# Altium schematic symbol library Cells_in_Space.SCHLIB: 57 symbols
Pins are listed as number, name and electrical type; pins without a type are passive.

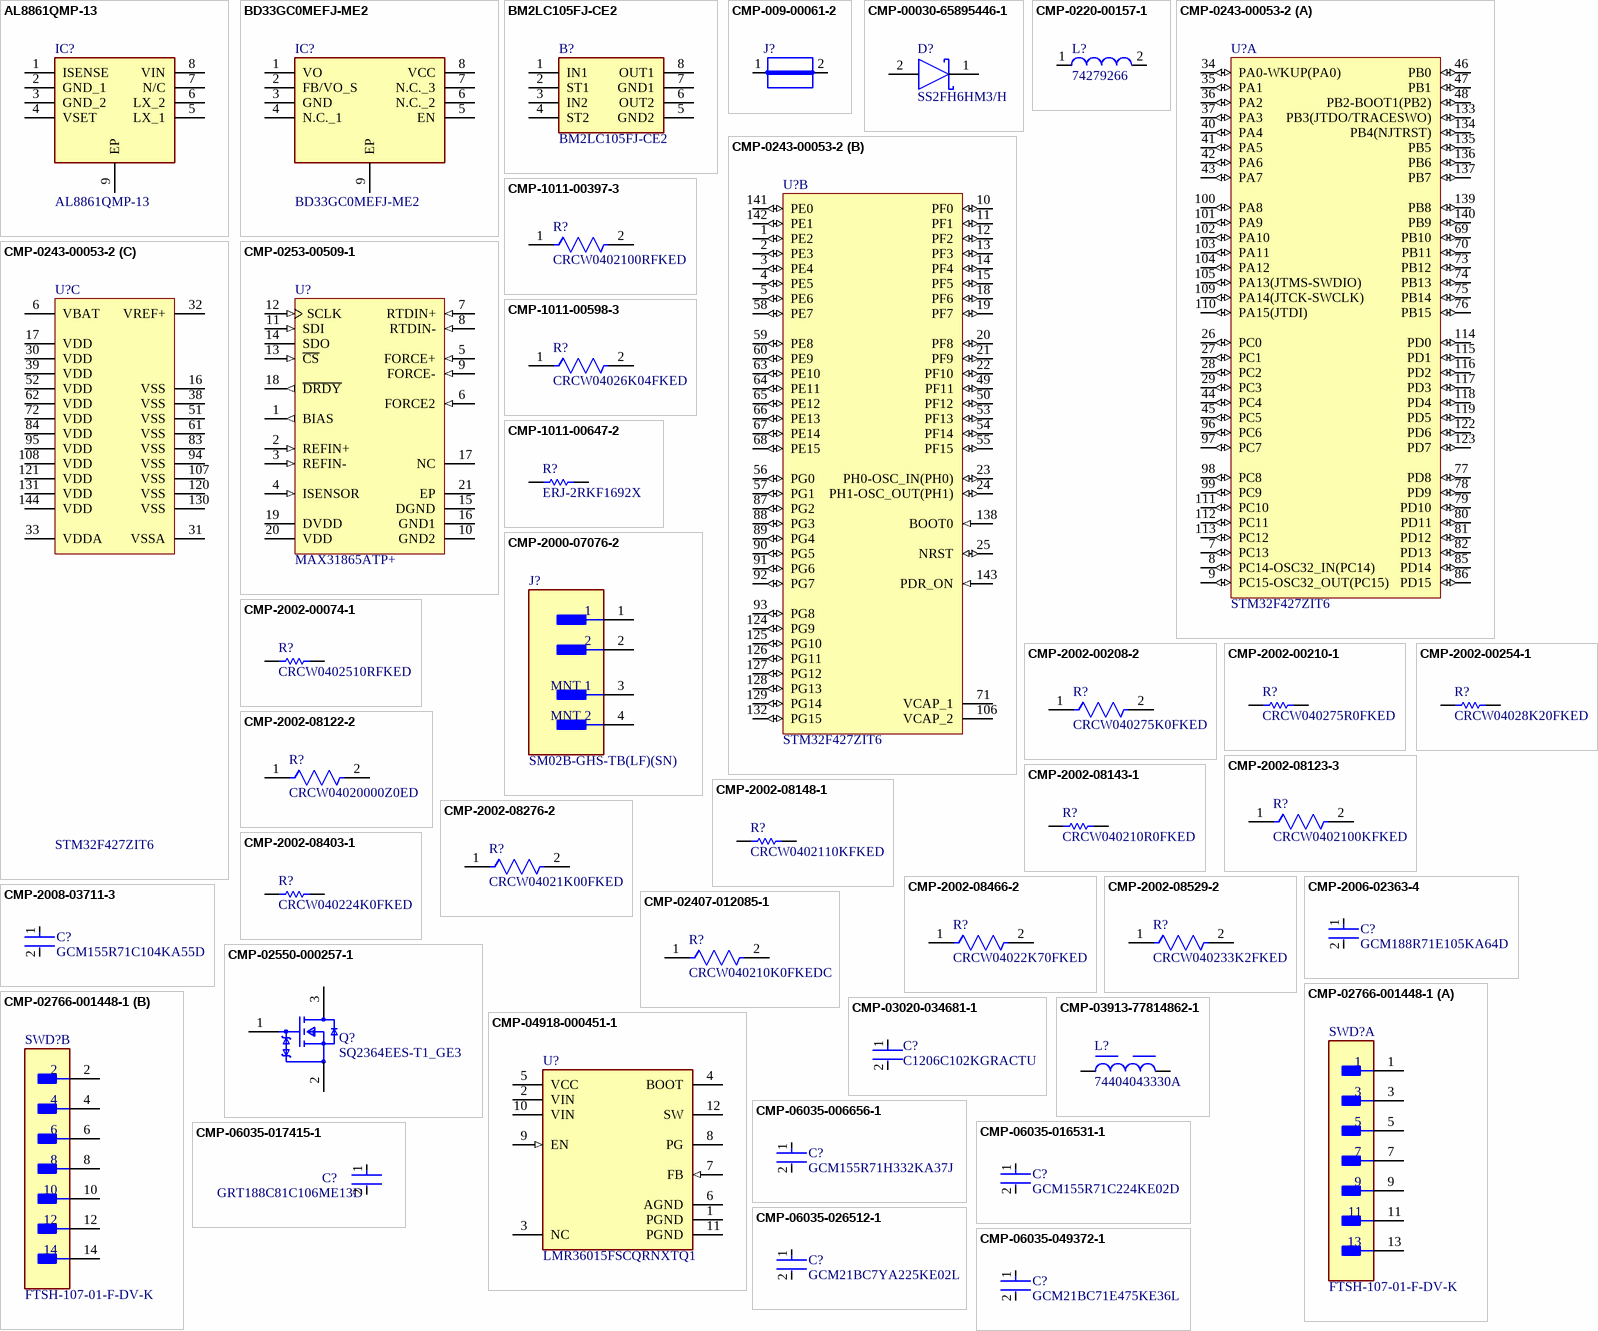
[diagram p0: symbols AL8861QMP-13 to CMP-06035-049372-1]

## AL8861QMP-13
designator IC?
Integrated Circuit; Manufacturer_Name: Diodes Incorporated; Datasheet Link: https://componentsearchengine.com/Datasheets/1/AL8861QMP-13.pdf; Height: 1.1mm; Manufacturer_Part_Number: AL8861QMP-13; Mouser Part Number: 621-AL8861QMP-13; Mouser Price/Stock: https://www.mouser.co.uk/ProductDetail/Diodes-Incorporated/AL8861QMP-13?qs=T3oQrply3y9Ug0fmv4aCFA%3D%3D; Arrow Part Number: AL8861QMP-13; Arrow Price/Stock: https://www.arrow.com/en/products/al8861qmp-13/diodes-incorporated?region=nac
footprint SOP65P490X110-9N
pins: 1 ISENSE, 2 GND_1, 3 GND_2, 4 VSET, 5 LX_1, 6 LX_2, 7 N/C, 8 VIN, 9 EP

## BD33GC0MEFJ-ME2
designator IC?
Integrated Circuit; Manufacturer_Name: ROHM Semiconductor; Datasheet Link: https://www.mouser.cl/datasheet/2/348/bdxxgc0mefj-m-e-1874062.pdf; Height: 1mm; Manufacturer_Part_Number: BD33GC0MEFJ-ME2; Mouser Part Number: 755-BD33GC0MEFJ-ME2; Mouser Price/Stock: https://www.mouser.com/Search/Refine.aspx?Keyword=755-BD33GC0MEFJ-ME2
footprint SOIC127P600X100-9N
pins: 1 VO, 2 FB/VO_S, 3 GND, 4 N.C._1, 5 EN, 6 N.C._2, 7 N.C._3, 8 VCC, 9 EP

## BM2LC105FJ-CE2
designator B?
Smart Low Side Switch ICs; Manufacturer_Name: ROHM Semiconductor; Geometry.Height: 1.65mm; Mouser Part Number: 755-BM2LC105FJ-CE2; Mouser Price/Stock: https://www.mouser.co.uk/ProductDetail/ROHM-Semiconductor/BM2LC105FJ-CE2?qs=YCa%2FAAYMW02vvU7sqt7v8g%3D%3D; Manufacturer_Part_Number: BM2LC105FJ-CE2; Datasheet Link: https://www.mouser.de/datasheet/2/348/bxxlc105fj-c-e-1807787.pdf
footprint SOIC127P600X165-8N
pins: 1 IN1, 2 ST1, 3 IN2, 4 ST2, 5 GND2, 6 OUT2, 7 GND1, 8 OUT1

## CMP-009-00061-2
designator J?, comment JUMPER  (value not drawn)
Pins: 2
footprint JUMPER
pins: 1, 2

## CMP-00030-65895446-1
designator D?, comment SS2FH6HM3/H
SS2FH6HM3/H Diode Schottky 60V 2A Automotive 2-Pin SMF T/R; NexarPartId: 65895446; Manufacturer: Vishay Semiconductors; Max Reverse Voltage (DC): 60V; Mount: Surface Mount; Average Rectified Current: 2A; RoHS: Compliant; Packaging: Cut Tape (CT); Schedule B: 8541100080, 8541100080; Manufacturer Part Number: SS2FH6HM3/H
footprint FP-S8-V-3915_01-001-MFG (Diode Schottky 60V 2A Automotive 2-Pin SMF T/R)
pins: 1 C, 2 A

## CMP-0220-00157-1
designator L?, comment 74279266
SMD EMI Suppression Ferrite Bead WE-CBF, Z = 1000 Ohm; Manufacturer: Wurth Electronics; PackageVersion: 2009; Impedance: 1000 Ohm; PackageDescription: Chip Inductor, 2-Leads, Body 1.6 x 0.8 mm; DatasheetVersion: Dec-2005; ComponentLink2Description: Datasheet; ComponentLink1URL: http://www.we-online.com; ComponentLink1Description: Manufacturer Link; ComponentLink2URL: http://www.we-online.de/katalog/media/pdf/74279266.pdf; PackageReference: SMD-0603; Manufacturer Part Number: 74279266
footprint SMD-0603 (Chip Inductor, 2-Leads, Body 1.6x0.8x0.95 mm)
pins: 1, 2

## CMP-0243-00053-2
designator U?, comment STM32F427ZIT6
ARM Cortex-M4 32-bit MCU+FPU, 210 DMIPS, 2048 kB Flash, 256 kB Internal RAM, 114 I/Os, 144-pin LQFP, -40 to 85 degC, Tray; Manufacturer: STMicroelectronics; I/Os (High Current): 114; Operating Frequency(F) (Processor speed) (MHz): 168; Supply Voltage(Vcc) max (V): 3.6; FLASH Size (Prog) (kB): 2048; Internal RAM Size (kB): 256; D/A Converter: 2x12-bit; Supply Voltage(Vcc) min (V): 1.8; PartNumber: STM32F427ZIT6; PackageReference: LQFP144; ComponentLink2Description: Datasheet; PackageVersion: Rev. 4, 06/2013; Core: ARM Cortex-M4; Mounting Technology: Surface Mount; ComponentLink3Description: Package Specification; PackageDescription: 144-Pin Low Profile Quad Flat Package, 20 x 20 mm Body, 0.5 mm Pitch; ComponentLink1Description: Manufacturer URL; ComponentLink2URL: http://www.st.com/st-web-ui/static/active/en/resource/technical/document/datasheet/DM00071990.pdf; ComponentLink3URL: http://www.st.com/st-web-ui/static/active/en/resource/technical/document/datasheet/DM00037051.pdf; Packing: Tray; ComponentLink1URL: http://www.st.com/web/en/home.html; DatasheetVersion: Rev. 1; Manufacturer Part Number: STM32F427ZIT6
footprint STM-LQFP144_V (Thin QFP, 144-Leads, Body 20x20mm, Pitch 0.5mm, ST Recommended)
footprint STM-LQFP144_L (Thin QFP, 144-Leads, Body 20x20mm, Pitch 0.5mm, IPC High Density)
footprint STM-LQFP144_N (Thin QFP, 144-Leads, Body 20x20mm, Pitch 0.5mm, IPC Medium Density)
footprint STM-LQFP144_M (Thin QFP, 144-Leads, Body 20x20mm, Pitch 0.5mm, IPC Low Density)
part A pins: 7 PC13 (io) "PC13/EVENTOUT/RTC_OUT,RTC_TAMP1,RTC_TS", 8 PC14-OSC32_IN(PC14) (io) "PC14-OSC32_IN(PC14)/EVENTOUT/OSC32_IN", 9 PC15-OSC32_OUT(PC15) (io) "PC15-OSC32_OUT(PC15)/EVENTOUT/OSC32_OUT", 26 PC0 (io) "PC0/OTG_HS_ULPI_STP,EVENTOUT/ADC123_IN10", 27 PC1 (io) "PC1/ETH_MDC,EVENTOUT/ADC123_IN11", 28 PC2 (io) "PC2/SPI2_MISO,OTG_HS_ULPI_DIR,ETH_MII_TXD2,I2S2ext_SD,EVENTOUT/ADC123_IN12", 29 PC3 (io) "PC3/SPI2_MOSI/I2S2_SD,OTG_HS_ULPI_NXT,ETH_MII_TX_CLK,EVENTOUT/ADC123_IN13", 34 PA0-WKUP(PA0) (io) "PA0-WKUP(PA0)/USART2_CTS,UART4_TX,ETH_MII_CRS,TIM2_CH1_ETR,TIM5_CH1,TIM8_ETR,EVENTOUT/ADC123_IN0,WKUP", 35 PA1 (io) "PA1/USART2_RTS,UART4_RX,ETH_RMII_REF_CLK,ETH_MII_RX_CLK,TIM5_CH2,TIMM2_CH2,EVENTOUT/ADC123_IN1", 36 PA2 (io) "PA2/USART2_TX,TIM5_CH3,TIM9_CH1,TIM2_CH3,ETH_MDIO,EVENTOUT/ADC123_IN2", 37 PA3 (io) "PA3/USART2_RX,TIM5_CH4,TIM9_CH2,TIM2_CH4,OTG_HS_ULPI_D0,ETH_MII_COL,EVENTOUT/ADC123_IN3", 40 PA4 (io) "PA4/SPI1_NSS,SPI3_NSS,USART2_CK,DCMI_HSYNC,OTG_HS_SOF,I2S3_WS,EVENTOUT/ADC12_IN4,DAC1_OUT", 41 PA5 (io) "PA5/SPI1_SCK,OTG_HS_ULPI_CK,TIM2_CH1_ETR,TIM8_CH1N,EVENTOUT/ADC12_IN5,DAC2_OUT", 42 PA6 (io) "PA6/SPI1_MISO,TIM8_BKIN,TIM13_CH1,DCMI_PIXCLK,TIM3_CH1,TIM1_BKIN,EVENTOUT/ADC12_IN6", 43 PA7 (io) "PA7/SPI1_MOSI,TIM8_CH1N,TIM14_CH1,TIM3_CH2,ETH_MII_RX_DV,TIM1_CH1N,ETH_RMII_CRS_DV,EVENTOUT/ADC12_IN7", 44 PC4 (io) "PC4/ETH_RMII_RX_D0,ETH_MII_RX_D0,EVENTOUT/ADC12_IN14", 45 PC5 (io) "PC5/ETH_RMII_RX_D1,ETH_MII_RX_D1,EVENTOUT/ADC12_IN15", 46 PB0 (io) "PB0/TIM3_CH3,TIM8_CH2N,OTG_HS_ULPI_D1,ETH_MII_RXD2,TIM1_CH2N,EVENTOUT/ADC12_IN8", 47 PB1 (io) "PB1/TIM3_CH4,TIM8_CH3N,OTG_HS_ULPI_D2,ETH_MII_RXD3,TIM1_CH3N,EVENTOUT/ADC12_IN9", 48 PB2-BOOT1(PB2) (io) "PB2-BOOT1(PB2)/EVENTOUT", 69 PB10 (io) "PB10/SPI2_SCK/I2S2_CK,I2C2_SCL,USART3_TX,OTG_HS_ULPI_D3,ETH_MII_RX_ER,TIM2_CH3,EVENTOUT", 70 PB11 (io) "PB11/I2C2_SDA,USART3_RX,OTG_HS_ULPI_D4,ETH_RMII_TX_EN,ETH_MII_TX_EN,TIM2_CH4,EVENTOUT", 73 PB12 (io) "PB12/SPI2_NSS/I2S2_WS,I2C2_SMBA,USART3_CK,TIM1_BKIN,CAN2_RX,OTG_HS_ULPI_D5,ETH_RMII_TXD0,ETH_MII_TXD0,OTG_HS_ID,EVENTOUT", 74 PB13 (io) "PB13/SPI2_SCK/I2S2_CK,USART3_CTS,TIM1_CH1N,CAN2_TX,OTG_HS_ULPI_D6,ETH_RMII_TXD1,ETH_MII_TXD1,EVENTOUT/OTG_HS_VBUS", 75 PB14 (io) "PB14/SPI2_MISO,TIM1_CH2N,TIM12_CH1,OTG_HS_DM,USART3_RTS,TIM8_CH2N,I2S2ext_SD,EVENTOUT", 76 PB15 (io) "PB15/SPI2_MOSI/I2S2_SD,TIM1_CH3N,TIM8_CH3N,TIM12_CH2,OTG_HS_DP,EVENTOUT,RTC_REFIN", 77 PD8 (io) "PD8/FSMC_D13,USART3_TX,EVENTOUT", 78 PD9 (io) "PD9/FSMC_D14,USART3_RX,EVENTOUT", 79 PD10 (io) "PD10/FSMC_D15,USART3_CK,EVENTOUT", 80 PD11 (io) "PD11/FSMC_CLE,FSMC_A16,USART3_CTS,EVENTOUT", 81 PD12 (io) "PD12/FSMC_ALE,FSMC_A17,TIM4_CH1,USART3_RTS,EVENTOUT", 82 PD13 (io) "PD13/FSMC_A18,TIM4_CH2,EVENTOUT", 85 PD14 (io) "PD14/FSMC_D0,TIM4_CH3,EVENTOUT", 86 PD15 (io) "PD15/FSMC_D1,TIM4_CH4,EVENTOUT", 96 PC6 (io) "PC6/I2S2_MCK,TIM8_CH1,SDIO_D6,USART6_TX,DCMI_D0,TIM3_CH1,EVENTOUT", 97 PC7 (io) "PC7/I2S3_MCK,TIM8_CH2,SDIO_D7,USART6_RX,DCMI_D1,TIM3_CH2,EVENTOUT", 98 PC8 (io) "PC8/TIM8_CH3,SDIO_D0,TIM3_CH3,USART6_CK,DCMI_D2,EVENTOUT", 99 PC9 (io) "PC9/I2S_CKIN,MCO2,TIM8_CH4,SDIO_D1,I2C3_SDA,DCMI_D3,TIM3_CH4,EVENTOUT", 100 PA8 (io) "PA8/MCO1,USART1_CK,TIM1_CH1,I2C3_SCL,OTG_FS_SOF,EVENTOUT", 101 PA9 (io) "PA9/USART1_TX,TIM1_CH2,I2C3_SMBA,DCMI_D0,EVENTOUT/OTG_FS_VBUS", 102 PA10 (io) "PA10/USART1_RX,TIM1_CH3,OTG_FS_ID,DCMI_D1,EVENTOUT", 103 PA11 (io) "PA11/USART1_CTS,CAN1_RX,TIM1_CH4,OTG_FS_DM,EVENTOUT", 104 PA12 (io) "PA12/USART1_RTS,CAN1_TX,TIM1_ETR,OTG_FS_DP,EVENTOUT", 105 PA13(JTMS-SWDIO) (io) "PA13(JTMS-SWDIO)/JTMS-SWDIO,EVENTOUT", 109 PA14(JTCK-SWCLK) (io) "PA14(JTCK-SWCLK)/JTCK-SWCLK,EVENTOUT", 110 PA15(JTDI) (io) "PA15(JTDI)/JTDI,SPI3_NSS,I2S3_WS,TIM2_CH1_ETR,SPI1_NSS,EVENTOUT", 111 PC10 (io) "PC10/SPI3_SCK/I2S3_CK,UART4_TX,SDIO_D2,DCMI_D8,USART3_TX,EVENTOUT", 112 PC11 (io) "PC11/UART4_RX,SPI3_MISO,SDIO_D3,DCMI_D4,USART3_RX,I2S3ext_SD,EVENTOUT", 113 PC12 (io) "PC12/UART5_TX,SDIO_CK,DCMI_D9,SPI3_MOSI,I2S3_SD,USART3_CK,EVENTOUT", 114 PD0 (io) "PD0/FSMC_D2,CAN1_RX,EVENTOUT", 115 PD1 (io) "PD1/FSMC_D3,CAN1_TX,EVENTOUT", 116 PD2 (io) "PD2/TIM3_ETR,UART5_RX,SDIO_CMD,DCMI_D11,EVENTOUT", 117 PD3 (io) "PD3/FSMC_CLK,USART2_CTS,EVENTOUT,SPI2_SCK,I2S2_CK,DCMI_D5", 118 PD4 (io) "PD4/FSMC_NOE,USART2_RTS,EVENTOUT", 119 PD5 (io) "PD5/FSMC_NWE,USART2_TX,EVENTOUT", 122 PD6 (io) "PD6/FSMC_NWAIT,USART2_RX,EVENTOUT,SPI3_MOSI,I2S3_MOSI,DCMI_D10", 123 PD7 (io) "PD7/USART2_CK,FSMC_NE1,FSMC_NCE2,EVENTOUT", 133 PB3(JTDO/TRACESWO) (io) "PB3(JTDO/TRACESWO)/JTDO/TRACESWO,SPI3_SCK/I2S3_CK,TIM2_CH2,SPI1_SCK,EVENTOUT", 134 PB4(NJTRST) (io) "PB4(NJTRST)/NJTRST,SPI3_MISO,TIM3_CH1,SPI1_MISO,I2S3ext_SD,EVENTOUT", 135 PB5 (io) "PB5/I2C1_SMBA,CAN2_RX,OTG_HS_ULPI_D7,ETH_PPS_OUT,TIM3_CH2,SPI1_MOSI,SPI3_MOSI,DCMI_D10,I2S3_SD,EVENTOUT", 136 PB6 (io) "PB6/I2C1_SCL,TIM4_CH1,CAN2_TX,DCMI_D5,USART1_TX,EVENTOUT", 137 PB7 (io) "PB7/I2C1_SDA,FSMC_NL(NADV),DCMI_VSYNC,USART1_RX,TIM4_CH2,EVENTOUT", 139 PB8 (io) "PB8/TIM4_CH3,SDIO_D4,TIM10_CH1,DCMI_D6,ETH_MII_TXD3,I2C1_SCL,CAN1_RX,EVENTOUT", 140 PB9 (io) "PB9/SPI2_NSS/I2S2_WS,TIM4_CH4,TIM11_CH1,SDIO_D5,DCMI_D7,I2C1_SDA,CAN1_TX,EVENTOUT"
part B pins: 1 PE2 (io) "PE2/TRACECLK,FSMC_A23,ETH_MII_TXD3,EVENTOUT,SPI4_SCK", 2 PE3 (io) "PE3/TRACED0,FSMC_A19,EVENTOUT,SPI4_NSS", 3 PE4 (io) "PE4/TRACED1,FSMC_A20,DCMI_D4,EVENTOUT,SPI4_NSS", 4 PE5 (io) "PE5/TRACED2,FSMC_A21,TIM9_CH1,DCMI_D6,EVENTOUT,SPI4_MISO", 5 PE6 (io) "PE6/TRACED3,FSMC_A22,TIM9_CH2,DCMI_D7,EVENTOUT,SPI4_MOSI", 10 PF0 (io) "PF0/FSMC_A0,I2C2_SDA,EVENTOUT", 11 PF1 (io) "PF1/FSMC_A1,I2C2_SCL,EVENTOUT", 12 PF2 (io) "PF2/FSMC_A2,I2C2_SMBA,EVENTOUT", 13 PF3 (io) "PF3/FSMC_A3,EVENTOUT/ADC3_IN9", 14 PF4 (io) "PF4/FSMC_A4,EVENTOUT/ADC3_IN14", 15 PF5 (io) "PF5/FSMC_A5,EVENTOUT/ADC3_IN15", 18 PF6 (io) "PF6/TIM10_CH1,FSMC_NIORD,EVENTOUT,SPI5_NSS,UART7_RX/ADC3_IN4", 19 PF7 (io) "PF7/TIM11_CH1,FSMC_NREG,EVENTOUT,SPI5_SCK,UART7_TX/ADC3_IN5", 20 PF8 (io) "PF8/TIM13_CH1,FSMC_NIOWR,EVENTOUT,SPI5_MISO/ADC3_IN6", 21 PF9 (io) "PF9/TIM14_CH1,FSMC_CD,EVENTOUT,SPI5_MOSI/ADC3_IN7", 22 PF10 (io) "PF10/FSMC_INTR,EVENTOUT,DCMI_D11/ADC3_IN8", 23 PH0-OSC_IN(PH0) (io) "PH0-OSC_IN(PH0)/EVENTOUT/OSC_IN", 24 PH1-OSC_OUT(PH1) (io) "PH1-OSC_OUT(PH1)/EVENTOUT/OSC_OUT", 25 NRST (io), 49 PF11 (io) "PF11/DCMI_D12,EVENTOUT,SPI5_MOSI", 50 PF12 (io) "PF12/FSMC_A6,EVENTOUT", 53 PF13 (io) "PF13/FSMC_A7,EVENTOUT", 54 PF14 (io) "PF14/FSMC_A8,EVENTOUT", 55 PF15 (io) "PF15/FSMC_A9,EVENTOUT", 56 PG0 (io) "PG0/FSMC_A10,EVENTOUT", 57 PG1 (io) "PG1/FSMC_A11,EVENTOUT", 58 PE7 (io) "PE7/FSMC_D4,TIM1_ETR,EVENTOUT,UART7_RX", 59 PE8 (io) "PE8/FSMC_D5,TIM1_CH1N,EVENTOUT,UART7_TX", 60 PE9 (io) "PE9/FSMC_D6,TIM1_CH1,EVENTOUT", 63 PE10 (io) "PE10/FSMC_D7,TIM1_CH2N,EVENTOUT", 64 PE11 (io) "PE11/FSMC_D8,TIM1_CH2,EVENTOUT,SPI4_NSS", 65 PE12 (io) "PE12/FSMC_D9,TIM1_CH3N,EVENTOUT,SPI4_SCK", 66 PE13 (io) "PE13/FSMC_D10,TIM1_CH3,EVENTOUT,SPI4_MISO", 67 PE14 (io) "PE14/FSMC_D11,TIM1_CH4,EVENTOUT,SPI4_MOSI", 68 PE15 (io) "PE15/FSMC_D12,TIM1_BKIN,EVENTOUT", 71 VCAP_1 (power), 87 PG2 (io) "PG2/FSMC_A12,EVENTOUT", 88 PG3 (io) "PG3/FSMC_A13,EVENTOUT", 89 PG4 (io) "PG4/FSMC_A14,EVENTOUT", 90 PG5 (io) "PG5/FSMC_A15,EVENTOUT", 91 PG6 (io) "PG6/FSMC_INT2,EVENTOUT,DCMI_D12", 92 PG7 (io) "PG7/FSMC_INT3,USART6_CK,EVENTOUT,DCMI_D13", 93 PG8 (io) "PG8/USART6_RTS,ETH_PPS_OUT,EVENTOUT,SPI6_NSS", 106 VCAP_2 (power), 124 PG9 (io) "PG9/USART6_RX,FSMC_NE2,FSMC_NCE3,EVENTOUT", 125 PG10 (io) "PG10/FSMC_NCE4_1,FSMC_NE3,EVENTOUT,DCMI_D2", 126 PG11 (io) "PG11/FSMC_NCE4_2,ETH_MII_TX_EN,ETH_RMII_TX_EN,EVENTOUT,DCMI_D3", 127 PG12 (io) "PG12/FSMC_NE4,USART6_RTS,EVENTOUT,SPI6_MISO", 128 PG13 (io) "PG13/FSMC_A24,USART6_CTS,ETH_MII_TXD0,ETH_RMII_TXD0,EVENTOUT,SPI6_SCK", 129 PG14 (io) "PG14/FSMC_A25,USART6_TX,ETH_MII_TXD1,ETH_RMII_TXD1,EVENTOUT,SPI6_MOSI", 132 PG15 (io) "PG15/USART6_CTS,DCMI_D13,EVENTOUT", 138 BOOT0 (in) "BOOT0/VPP", 141 PE0 (io) "PE0/TIM4_ETR,FSMC_NBL0,DCMI_D2,EVENTOUT,UART8_RX", 142 PE1 (io) "PE1/FSMC_NBL1,DCMI_D3,EVENTOUT,UART8_TX", 143 PDR_ON (in)
part C pins: 6 VBAT (power), 16 VSS (power), 17 VDD (power), 30 VDD (power), 31 VSSA (power), 32 VREF+ (power), 33 VDDA (power), 38 VSS (power), 39 VDD (power), 51 VSS (power), 52 VDD (power), 61 VSS (power), 62 VDD (power), 72 VDD (power), 83 VSS (power), 84 VDD (power), 94 VSS (power), 95 VDD (power), 107 VSS (power), 108 VDD (power), 120 VSS (power), 121 VDD (power), 130 VSS (power), 131 VDD (power), 144 VDD (power)

## CMP-0253-00509-1
designator U?, comment MAX31865ATP+
RTD-to-Digital Converter, 15 Bits Temperature Resolution, -40 to 125 degC, 20-Pin QFN (T2055+5), Pb-Free; Manufacturer: Maxim; Interface: SPI; Parasite Pwr.: No; PackageDescription: 20-Pin Thin Quad Flatpack, No Leads, Body 5 x 5 mm, Pitch 0.65 mm; ComponentLink2Description: Datasheet; Code_JEDEC: MO-220; ComponentLink3Description: Package Specification; Generic Part Number: MAX31865; ComponentLink3URL: http://pdfserv.maximintegrated.com/package_dwgs/21-0140.PDF; ComponentLink2URL: http://datasheets.maximintegrated.com/en/ds/MAX31865.pdf; Mounting Technology: Surface Mount; PartNumber: MAX31865ATP+; PackageVersion: Rev. Q, 09/2011; DatasheetVersion: Rev. 0; PackageReference: T2055+5; ComponentLink1URL: http://www.maximintegrated.com/; ComponentLink1Description: Manufacturer URL; Functions: RTD-to-Digital Converter; Manufacturer Part Number: MAX31865ATP+
footprint MAXM-T2055+5_L (QFN, 20-Leads, Body 5x5mm, Pitch 0.65mm, Thermal Pad 3.25X3.25mm, IPC High Density)
footprint MAXM-T2055+5_M (QFN, 20-Leads, Body 5x5mm, Pitch 0.65mm, Thermal Pad 3.25X3.25mm, IPC Low Density)
footprint MAXM-T2055+5_N (QFN, 20-Leads, Body 5x5mm, Pitch 0.65mm, Thermal Pad 3.25X3.25mm, IPC Medium Density)
pins: 1 BIAS (out) "Bias Voltage Output", 2 REFIN+ (in) "Positive Reference Voltage Input. Connect the reference resistor between REFIN+ and REFIN-", 3 REFIN- (in) "Negative Reference Voltage Input. Connect the reference resistor between REFIN+ and REFIN-", 4 ISENSOR (in) "Low Side of RREF. Connect to REFIN-", 5 FORCE+ (in) "High-Side RTD Drive. Connect to FORCE2 when using the 3-wire connection configuration. Protected to +/-50V", 6 FORCE2 (in) "Positive Input Used in 3-Wire Only. When in the 3-wire connection configuration, connect to FORCE+. When in the 2-wire or 4-wire connection configuration, connect to ground. Protected to +/-50V", 7 RTDIN+ (in) "Positive RTD Input. Protected to +/-50V", 8 RTDIN- (in) "Negative RTD Input. Protected to +/-50V", 9 FORCE- (in) "Low-Side RTD Return. Protected to +/-50V", 10 GND2 (power) "Analog Ground. Connect to GND1", 11 SDI (in) "Serial-Data Input", 12 SCLK (in) "Serial-Data Clock Input", 13 ~{CS} (in) "Active-Low Chip Select. Set C\S\ low to enable the serial interface", 14 SDO (hiz) "Serial-Data Output", 15 DGND (power) "Digital Ground", 16 GND1 (power) "Analog Ground.Connect to GND2", 17 NC "Do Not Connect", 18 ~{DRDY} (out) "Active-Low Push-Pull Data-Ready Output. D\R\D\Y\ goes low when a new conversion result is available in the data register. When a read-operation of an RTD resistance data register occurs, D\R\D\Y\ returns high", 19 DVDD (power) "Digital Supply Voltage Input. Connect to a 3.3V power supply. Bypass to DGND with a 0.1uF bypass capacitor", 20 VDD (power) "Analog Supply Voltage Input. Connect to a 3.3V power supply. Bypass to GND1 with a 0.1uF bypass capacitor", 21 EP (power) "Exposed Pad (Bottom Side of Package). Connect to GND1"

## CMP-1011-00397-3
designator R?, comment CRCW0402100RFKED
RES Thick Film, 100Ω, 1%, 0.063W, 100ppm/°C, 0402; Manufacturer: Vishay Dale; Manufacturer: Yageo; Manufacturer Part Number: RC0402FR-07100RL; Manufacturer: Panasonic; Manufacturer Part Number: ERJ-2RKF1000X; Manufacturer Part Number: CRCW0402100RFKTD; Manufacturer: Bourns; Manufacturer Part Number: CR0402-FX-1000GLF; Max Power Dissipation: 63mW; Voltage Rating: 50V; Resistance: 100R; Package Quantity: 10; Lead Free: Lead Free; Termination: SMD/SMT; Case Code (Metric): 1005; Number of Terminations: 2; Composition: Thick Film; Voltage Rating (DC): 50V; Min Operating Temperature: -55°C; Case/Package: 0402; Radiation Hardening: No; Max Operating Temperature: 155°C; Temperature Coefficient: 100ppm/°C; Military Standard: Not; Length: 1mm; Mount: Surface Mount; Power Rating: 63mW; Weight: 2.3E-05oz; Working Voltage: 50V; Features: Automotive AEC-Q200; Depth: 0.5mm; Packaging: Tape and Reel; Tolerance: 1%; Height: 0.35mm; Case Code (Imperial): 0402; Width: 0.02inch; Contact Plating: Tin; Manufacturer Part Number: CRCW0402100RFKED
footprint FP-CRCW0402-e3-IPC_C
footprint FP-CRCW0402-e3-IPC_B
footprint FP-CRCW0402-e3-IPC_A
footprint FP-CRCW0402-e3-MFG
pins: 1, 2

## CMP-1011-00598-3
designator R?, comment CRCW04026K04FKED
RES Thick Film, 6.04kΩ, 1%, 0.063W, 100ppm/°C, 0402; Manufacturer: Vishay; Manufacturer: Bourns; Manufacturer Part Number: CR0402-FX-6041GLF; Manufacturer: Yageo; Manufacturer Part Number: RC0402FR-076K04L; Manufacturer: Vishay Dale; Manufacturer Part Number: CRCW04026K04FKTD; Manufacturer: Panasonic; Manufacturer Part Number: ERJ-2RKF6041X; Voltage Rating: 50V; Max Power Dissipation: 63mW; Resistance: 6.04kR; Number of Terminations: 2; Features: Automotive AEC-Q200; Lead Free: Lead Free; Radiation Hardening: No; Case/Package: 0402; Depth: 0.5mm; Composition: Thick Film; Length: 1mm; Width: 0.02inch; Temperature Coefficient: 100ppm/°C; Min Operating Temperature: -55°C; Voltage Rating (DC): 50V; Contact Plating: Tin; Military Standard: Not; Package Quantity: 10; Case Code (Imperial): 0402; Weight: 2.3E-05oz; Tolerance: 1%; Power Rating: 63mW; Max Operating Temperature: 155°C; Packaging: Tape and Reel; Number of Pins: 2; Height: 0.35mm; Termination: SMD/SMT; Case Code (Metric): 1005; Manufacturer Part Number: CRCW04026K04FKED
footprint FP-CRCW0402-e3-IPC_A
footprint FP-CRCW0402-e3-IPC_B
footprint FP-CRCW0402-e3-MFG
footprint FP-CRCW0402-e3-IPC_C
pins: 1, 2

## CMP-1011-00647-2
designator R?, comment ERJ-2RKF1692X
Manufacturer: Panasonic; Manufacturer: Yageo; Manufacturer Part Number: RC0402FR-0716K9L; Manufacturer: Bourns; Manufacturer Part Number: CR0402-FX-1692GLF; Manufacturer: Vishay; Manufacturer Part Number: CRCW040216K9FKED; Manufacturer: Vishay Dale; Manufacturer Part Number: CRCW040216K9FKTD; Part Number: ERJ-2RKF1692X; Manufacturer Part Number: ERJ-2RKF1692X
footprint RESC1005X40X25ML05T05 (Chip Resistor, 2-Leads, Body 1.00x0.50mm, IPC Low Density)
footprint RESC1005X40X25LL05T05 (Chip Resistor, 2-Leads, Body 1.00x0.50mm, IPC High Density)
footprint RESC1005X40X25NL05T05 (Chip Resistor, 2-Leads, Body 1.00x0.50mm, IPC Medium Density)
pins: 1, 2
1 alternate drawing of the same symbol

## CMP-2000-07076-2
designator J?, comment SM02B-GHS-TB(LF)(SN)
CONN HEADER SMD R/A 2POS 1.25MM; Manufacturer: JST; Voltage Rating: 50V; Number of Positions: 2; Pitch: 0.049inch; Current Rating: 1A; Connector Type: Outer Shroud Contact; Number of Rows: 1; Contact Material: Bronze; Termination: Solder; Color: Natural; Package Quantity: 2500; Mount: Surface Mount; Housing Color: Natural; Number of Contacts: 2; Packaging: Tape and Reel; Lead Free: Lead Free; Housing Material: Nylon; Orientation: Right Angle; Contact Type: Male Pin; Contact Plating: Tin; Series: GH; Fastening Type: Latch; Manufacturer Part Number: SM02B-GHS-TB(LF)(SN)
footprint FP-SM02B-GHS-TB_LF_SN-MFG
pins: 1, 2, 3 MNT 1, 4 MNT 2

## CMP-2002-00074-1
designator R?, comment CRCW0402510RFKED
Manufacturer: Vishay Dale; Manufacturer: Vishay; Part Number: CRCW0402510RFKED; Manufacturer Part Number: CRCW0402510RFKED
footprint RESC1005X40X25LL05T05 (Chip Resistor, 2-Leads, Body 1.00x0.50mm, IPC High Density)
footprint RESC1005X40X25ML05T05 (Chip Resistor, 2-Leads, Body 1.00x0.50mm, IPC Low Density)
footprint RESC1005X40X25NL05T05 (Chip Resistor, 2-Leads, Body 1.00x0.50mm, IPC Medium Density)
pins: 1, 2
1 alternate drawing of the same symbol

## CMP-2002-00208-2
designator R?, comment CRCW040275K0FKED
RES Thick Film, 75kΩ, 1%, 0.063W, 100ppm/°C, 0402; Manufacturer: Vishay; Voltage Rating (DC): 50V; Max Power Dissipation: 63mW; Resistance: 75kR; Packaging: Tape and Reel; Radiation Hardening: No; Features: Automotive AEC-Q200; Depth: 0.5mm; Number of Pins: 2; Case/Package: 0402; Weight: 2.3E-05oz; Width: 0.02inch; Height: 0.35mm; Termination: SMD/SMT; Lead Free: Lead Free; Voltage Rating: 50V; Min Operating Temperature: -55°C; Package Quantity: 10; Case Code (Imperial): 0402; Composition: Thick Film; Contact Plating: Tin; Mount: Surface Mount; Tolerance: 1%; Case Code (Metric): 1005; Max Operating Temperature: 155°C; Temperature Coefficient: 100ppm/°C; Number of Terminations: 2; Military Standard: Not; Length: 1mm; Power Rating: 63mW; Manufacturer Part Number: CRCW040275K0FKED
footprint FP-CRCW0402-e3-IPC_A
footprint FP-CRCW0402-e3-IPC_C
footprint FP-CRCW0402-e3-IPC_B
footprint FP-CRCW0402-e3-MFG
pins: 1, 2

## CMP-2002-00210-1
designator R?, comment CRCW040275R0FKED
Manufacturer: Vishay Dale; Manufacturer: Vishay; Part Number: CRCW040275R0FKED; Manufacturer Part Number: CRCW040275R0FKED
footprint RESC1005X40X25NL05T05 (Chip Resistor, 2-Leads, Body 1.00x0.50mm, IPC Medium Density)
footprint RESC1005X40X25LL05T05 (Chip Resistor, 2-Leads, Body 1.00x0.50mm, IPC High Density)
footprint RESC1005X40X25ML05T05 (Chip Resistor, 2-Leads, Body 1.00x0.50mm, IPC Low Density)
pins: 1, 2
1 alternate drawing of the same symbol

## CMP-2002-00254-1
designator R?, comment CRCW04028K20FKED
Manufacturer: Vishay Dale; Manufacturer: Vishay; Part Number: CRCW04028K20FKED; Manufacturer Part Number: CRCW04028K20FKED
footprint RESC1005X40X25ML05T05 (Chip Resistor, 2-Leads, Body 1.00x0.50mm, IPC Low Density)
footprint RESC1005X40X25NL05T05 (Chip Resistor, 2-Leads, Body 1.00x0.50mm, IPC Medium Density)
footprint RESC1005X40X25LL05T05 (Chip Resistor, 2-Leads, Body 1.00x0.50mm, IPC High Density)
pins: 1, 2
1 alternate drawing of the same symbol

## CMP-2002-08122-2
designator R?, comment CRCW04020000Z0ED
RES Thick Film, 0Ω, 0.063W, 0402; Manufacturer: Vishay; Tolerance: 5%; Max Power Dissipation: 63mW; Voltage Rating: 50V; Temperature Coefficient: 100ppm/°C; Resistance: 0mR; Contact Plating: Tin; Height: 0.35mm; Radiation Hardening: No; Features: Automotive AEC-Q200; Composition: Thick Film; Width: 0.5mm; Weight: 2.3E-05oz; Termination: SMD/SMT; Packaging: Tape and Reel; Mount: Surface Mount; Case Code (Metric): 1005; Military Standard: Not; Min Operating Temperature: -55°C; Number of Terminations: 2; Package Quantity: 1; Case Code (Imperial): 0402; Depth: 0.5mm; Max Operating Temperature: 155°C; Case/Package: 0402; Power Rating: 63mW; Lead Free: Lead Free; Voltage Rating (DC): 50V; Length: 1mm; Manufacturer Part Number: CRCW04020000Z0ED
footprint FP-CRCW0402-e3-IPC_C
footprint FP-CRCW0402-e3-IPC_A
footprint FP-CRCW0402-e3-MFG
footprint FP-CRCW0402-e3-IPC_B
pins: 1, 2

## CMP-2002-08123-3
designator R?, comment CRCW0402100KFKED
RES Thick Film, 100kΩ, 1%, 0.063W, 100ppm/°C, 0402; Manufacturer: Vishay Dale; Power Rating: 63mW; Resistance: 100kR; Voltage Rating (DC): 50V; Lead Free: Lead Free; Height: 0.35mm; Contact Plating: Tin; Min Operating Temperature: -55°C; Package Quantity: 10000; Case/Package: 0402; Temperature Coefficient: 100ppm/°C; Number of Terminations: 2; Packaging: Tape and Reel; Max Power Dissipation: 63mW; Case Code (Metric): 1005; Mount: Surface Mount; Width: 0.02inch; Termination: SMD/SMT; Length: 1mm; Number of Pins: 2; Weight: 2.3E-05oz; Radiation Hardening: No; Tolerance: 1%; Military Standard: Not; Features: Automotive AEC-Q200; Depth: 0.5mm; Composition: Thick Film; Max Operating Temperature: 155°C; Voltage Rating: 50V; Case Code (Imperial): 0402; Manufacturer Part Number: CRCW0402100KFKED
footprint FP-CRCW0402-e3-IPC_C
footprint FP-CRCW0402-e3-IPC_A
footprint FP-CRCW0402-e3-IPC_B
footprint FP-CRCW0402-e3-MFG
pins: 1, 2

## CMP-2002-08143-1
designator R?, comment CRCW040210R0FKED
Manufacturer: Vishay Dale; Manufacturer: Vishay; Part Number: CRCW040210R0FKED; Manufacturer Part Number: CRCW040210R0FKED
footprint RESC1005X40X25NL05T05 (Chip Resistor, 2-Leads, Body 1.00x0.50mm, IPC Medium Density)
footprint RESC1005X40X25LL05T05 (Chip Resistor, 2-Leads, Body 1.00x0.50mm, IPC High Density)
footprint RESC1005X40X25ML05T05 (Chip Resistor, 2-Leads, Body 1.00x0.50mm, IPC Low Density)
pins: 1, 2
1 alternate drawing of the same symbol

## CMP-2002-08148-1
designator R?, comment CRCW0402110KFKED
Manufacturer: Vishay Dale; Manufacturer: Vishay; Part Number: CRCW0402110KFKED; Manufacturer Part Number: CRCW0402110KFKED
footprint RESC1005X40X25NL05T05 (Chip Resistor, 2-Leads, Body 1.00x0.50mm, IPC Medium Density)
footprint RESC1005X40X25ML05T05 (Chip Resistor, 2-Leads, Body 1.00x0.50mm, IPC Low Density)
footprint RESC1005X40X25LL05T05 (Chip Resistor, 2-Leads, Body 1.00x0.50mm, IPC High Density)
pins: 1, 2
1 alternate drawing of the same symbol

## CMP-2002-08276-2
designator R?, comment CRCW04021K00FKED
RES Thick Film, 1kΩ, 1%, 0.063W, 100ppm/°C, 0402; Manufacturer: Vishay Dale; Resistance: 1kR; Power Rating: 63mW; Voltage Rating (DC): 50V; Package Quantity: 10; Termination: SMD/SMT; Width: 0.5mm; Military Standard: Not; Length: 1mm; Contact Plating: Tin; Mount: Surface Mount; Packaging: Tape and Reel; Case Code (Imperial): 0402; Tolerance: 1%; Weight: 2.3E-05oz; Number of Pins: 2; Case/Package: 0402; Case Code (Metric): 1005; Lead Free: Lead Free; Number of Terminations: 2; Max Power Dissipation: 63mW; Depth: 0.5mm; Temperature Coefficient: 100ppm/°C; Max Operating Temperature: 155°C; Height: 0.35mm; Features: Automotive AEC-Q200; Composition: Thick Film; Radiation Hardening: No; Voltage Rating: 50V; Min Operating Temperature: -55°C; Manufacturer Part Number: CRCW04021K00FKED
footprint FP-CRCW0402-e3-MFG
footprint FP-CRCW0402-e3-IPC_C
footprint FP-CRCW0402-e3-IPC_B
footprint FP-CRCW0402-e3-IPC_A
pins: 1, 2

## CMP-2002-08403-1
designator R?, comment CRCW040224K0FKED
Manufacturer: Vishay Dale; Manufacturer: Vishay; Part Number: CRCW040224K0FKED; Manufacturer Part Number: CRCW040224K0FKED
footprint RESC1005X40X25ML05T05 (Chip Resistor, 2-Leads, Body 1.00x0.50mm, IPC Low Density)
footprint RESC1005X40X25LL05T05 (Chip Resistor, 2-Leads, Body 1.00x0.50mm, IPC High Density)
footprint RESC1005X40X25NL05T05 (Chip Resistor, 2-Leads, Body 1.00x0.50mm, IPC Medium Density)
pins: 1, 2
1 alternate drawing of the same symbol

## CMP-2002-08466-2
designator R?, comment CRCW04022K70FKED
RES Thick Film, 2.7kΩ, 1%, 0.063W, 100ppm/°C, 0402; Manufacturer: Vishay; Power Rating: 63mW; Voltage Rating (DC): 50V; Resistance: 2.7kR; Termination: SMD/SMT; Composition: Thick Film; Packaging: Tape and Reel; Tolerance: 1%; Number of Pins: 2; Contact Plating: Tin; Max Operating Temperature: 155°C; Depth: 0.5mm; Features: Automotive AEC-Q200; Lead Free: Lead Free; Number of Terminations: 2; Case/Package: 0402; Max Power Dissipation: 63mW; Radiation Hardening: No; Height: 0.35mm; Min Operating Temperature: -55°C; Width: 0.02inch; Military Standard: Not; Package Quantity: 10; Weight: 2.3E-05oz; Temperature Coefficient: 100ppm/°C; Case Code (Metric): 1005; Voltage Rating: 50V; Length: 1mm; Case Code (Imperial): 0402; Manufacturer Part Number: CRCW04022K70FKED
footprint FP-CRCW0402-e3-IPC_A
footprint FP-CRCW0402-e3-IPC_C
footprint FP-CRCW0402-e3-IPC_B
footprint FP-CRCW0402-e3-MFG
pins: 1, 2

## CMP-2002-08529-2
designator R?, comment CRCW040233K2FKED
NexarPartId: 39869749; Manufacturer: Vishay; Power Rating: 63mW; Temperature Coefficient: 100ppm/°C; Resistance: 33.2kΩ; Voltage Rating: 50V; Tolerance: 1%; REACH SVHC: Unknown; Number of Pins: 2; Military Standard: Not; Composition: Thick Film; Case Code (Imperial): 0402; Number of Terminations: 2; Lead Free: Lead Free; Case Code (Metric): 1005; Termination: SMD/SMT; Case/Package: 0402; Contact Plating: Tin; Height: 350µm; Min Operating Temperature: -55°C; Mount: Surface Mount; Max Operating Temperature: 155°C; Features: Automotive AEC-Q200; Length: 1mm; Weight: 652.039032µg; Packaging: Cut Tape; Schedule B: 8533210045, 8533210045; Voltage Rating (DC): 50V; Depth: 500µm; Max Power Dissipation: 63mW; RoHS: Compliant; Radiation Hardening: No; Width: 500µm; Manufacturer Part Number: CRCW040233K2FKED
footprint Vishay_CRCW0402-e3_MFG (SMD Chip Resistor, 33.2 kOhm, ± 1%, 63 mW, 0402 [1005 Metric], Thick Film, General Purpose)
footprint Vishay_CRCW0402-e3_IPC_A (SMD Chip Resistor, 33.2 kOhm, ± 1%, 63 mW, 0402 [1005 Metric], Thick Film, General Purpose)
footprint Vishay_CRCW0402-e3_IPC_B (SMD Chip Resistor, 33.2 kOhm, ± 1%, 63 mW, 0402 [1005 Metric], Thick Film, General Purpose)
footprint Vishay_CRCW0402-e3_IPC_C (SMD Chip Resistor, 33.2 kOhm, ± 1%, 63 mW, 0402 [1005 Metric], Thick Film, General Purpose)
pins: 1, 2

## CMP-2006-02363-4
designator C?, comment GCM188R71E105KA64D
Manufacturer Lifecycle Status: IN PRODUCTION; NexarPartId: 18909256; Manufacturer: Murata; Dielectric: X7R; Material: Ceramic; Tolerance: 10%; Capacitance: 1µF; Voltage Rating: 25V; Thickness: 889µm; Max Operating Temperature: 125°C; Radiation Hardening: No; Weight: 6.293594mg; Lead Free: Lead Free; Mount: Surface Mount; Case Code (Imperial): 0603; REACH SVHC: No SVHC; Lifecycle Status: Production; Depth: 800µm; Min Operating Temperature: -55°C; Height: 800µm; Case Code (Metric): 1608; Case/Package: 0603; Voltage: 25V; Packaging: Cut Tape; Length: 1.6mm; Termination: SMD/SMT; Width: 787.4µm; Voltage Rating (DC): 25V; RoHS: Compliant; Schedule B: 8532240020, 8532240020; Ratings: AEC-Q200; Manufacturer Part Number: GCM188R71E105KA64D
footprint FP-GCM188-0_1-MFG (Multilayer Ceramic Capacitor, 1 uF, 25 V, ± 10%, X7R, 0603 [1608 Metric])
footprint FP-GCM188-0_1-IPC_A (Multilayer Ceramic Capacitor, 1 uF, 25 V, ± 10%, X7R, 0603 [1608 Metric])
footprint FP-GCM188-0_1-IPC_B (Multilayer Ceramic Capacitor, 1 uF, 25 V, ± 10%, X7R, 0603 [1608 Metric])
footprint FP-GCM188-0_1-IPC_C (Multilayer Ceramic Capacitor, 1 uF, 25 V, ± 10%, X7R, 0603 [1608 Metric])
pins: 1, 2

## CMP-2008-03711-3
designator C?, comment GCM155R71C104KA55D
Ceramic Capacitor for Automotive 100nF ±10% 16VDC X7R 0402 Paper T/R; Manufacturer: Murata; Voltage Rating (DC): 16V; Termination: SMD/SMT; Length: 1mm; Voltage: 16V; Mount: Surface Mount; Packaging: Tape and Reel; Case Code (Metric): 1005; Case/Package: 0402; Voltage Rating: 16V; Min Operating Temperature: -55°C; Case Code (Imperial): 0402; Ratings: AEC-Q200; Height: 0.5mm; Tolerance: 10%; Width: 0.02inch; Radiation Hardening: No; Depth: 0.5mm; Capacitance: 100nF; Max Operating Temperature: 125°C; Package Quantity: 1; REACH SVHC: No SVHC; Thickness: 0.022inch; Dielectric: X7R; Lead Free: Lead Free; Manufacturer Part Number: GCM155R71C104KA55D
footprint FP-GCM155-0_05-IPC_C
footprint FP-GCM155-0_05-IPC_B
footprint FP-GCM155-0_05-IPC_A
footprint FP-GCM155-0_05-MFG
pins: 1, 2

## CMP-02407-012085-1
designator R?, comment CRCW040210K0FKEDC
RES 10K OHM 1% 1/16W 0402; Manufacturer: Vishay; Temperature Coefficient: 100ppm/°C; Power Rating: 62.5mW; Resistance: 10kR; Lead Free: Lead Free; Max Operating Temperature: 155°C; RoHS Compliant: Yes; Mount: Surface Mount; Min Operating Temperature: -55°C; Termination: Wraparound; Length: 1mm; Resistor Type: Thick Film; Contact Plating: Tin; Tolerance: 1%; Case/Package: Molded; Manufacturer Part Number: CRCW040210K0FKEDC
footprint FP-CRCW0402-C-e3-IPC_C
footprint FP-CRCW0402-C-e3-IPC_B
footprint FP-CRCW0402-C-e3-IPC_A
footprint FP-CRCW0402-C-e3-MFG
pins: 1, 2

## CMP-02550-000257-1
designator Q?, comment SQ2364EES-T1_GE3
MOSFET N-CH 60V 2A SOT23-3; Manufacturer: Vishay; Manufacturer Part Number: SQ2364EES-T1_GE3
footprint FP-S-03946-MFG
footprint FP-S-03946-IPC_B
footprint FP-S-03946-IPC_C
footprint FP-S-03946-IPC_A
pins: 1 G, 2 S, 3 D

## CMP-02766-001448-1
designator SWD?, comment FTSH-107-01-F-DV-K
CONN HEADER SMD 14POS 1.27MM; Manufacturer: Samtec; Gender: Male; Connector Type: Male Pin; Number of Contacts: 14; Row Spacing: 0.05inch; Min Operating Temperature: -55°C; Package Quantity: 1; Lead Free: Lead Free; RoHS Compliant: Yes; Contact Material: Bronze; Contact Plating: Gold; Number of Rows: 2; Housing Material: Polymer; Contact Type: Male Pin; Series: FTSH; Max Operating Temperature: 125°C; Orientation: Straight; Number of Positions: 14; Pitch: 1.27mm; Housing Color: Black; Color: Black; Radiation Hardening: No; Length: 8.89mm; Termination: Solder; Packaging: Rail/Tube; Depth: 5.84mm; Mount: Surface Mount; Contact Mating Length: 0.12inch; Manufacturer Part Number: FTSH-107-01-F-DV-K
footprint FP-FTSH-107-01-F-DV-K-MFG
part A pins: 1, 3, 5, 7, 9, 11, 13
part B pins: 2, 4, 6, 8, 10, 12, 14

## CMP-03020-034681-1
designator C?, comment C1206C102KGRACTU
CAP CER 1000PF 2KV X7R 1206; Manufacturer: KEMET; Tolerance: 10%; Capacitance: 1nF; Dissipation Factor: 2.5%; Dielectric Material: Ceramic; Voltage Rating (DC): 2.5kV; Voltage: 2kV; REACH SVHC: No SVHC; Height: 1.6mm; Construction: Flat; Case/Package: 1206; Series: C; Mount: Surface Mount; RoHS Compliant: Yes; Package Quantity: 1; Length: 3.2mm; Width: 0.063inch; Voltage Rating: 2kV; Min Operating Temperature: -55°C; Case Code (Metric): 3216; Termination: SMD/SMT; Number of Pins: 2; Case Code (Imperial): 1206; Packaging: Tape and Reel; Dielectric: X7R; Thickness: 0.069inch; Depth: 1.6mm; Radiation Hardening: No; Max Operating Temperature: 125°C; Manufacturer Part Number: C1206C102KGRACTU
footprint FP-C1206C-EF-MFG
footprint FP-C1206C-EF-IPC_C
footprint FP-C1206C-EF-IPC_B
footprint FP-C1206C-EF-IPC_A
pins: 1, 2

## CMP-03913-77814862-1
designator L?, comment 74404043330A
74404043330A WE-LQS SMT Semi-Shielded Power Inductor; NexarPartId: 77814862; Manufacturer: Wurth Electronics; Current Rating: 880mA; Inductance Tolerance: 20%; Inductance: 33µH; DC Resistance (DCR): 316mΩ; Ambient Temperature Range High: 85°C; Min Operating Temperature: -40°C; Length: 4mm; Height: 2.5mm; RoHS: Compliant; Ambient Temperature Range Low: -40°C; Width: 4mm; Max Operating Temperature: 125°C; Manufacturer Part Number: 74404043330A
footprint WE-LQS_4025 (WE-LQS SMT Semi-Shielded Power Inductor)
pins: 1, 2

## CMP-04918-000451-1
designator U?, comment LMR36015FSCQRNXTQ1
IC REG BUCK ADJ 1.5A 12VQFN; Manufacturer: Texas Instruments; RoHS Compliant: Yes; Manufacturer Part Number: LMR36015FSCQRNXTQ1
footprint FP-RNX0012B-MFG
pins: 1 PGND (power), 2 VIN (power), 3 NC, 4 BOOT, 5 VCC (power), 6 AGND (power), 7 FB (in), 8 PG (oc), 9 EN (in), 10 VIN (power), 11 PGND (power), 12 SW

## CMP-06035-006656-1
designator C?, comment GCM155R71H332KA37J
Ceramic Capacitor for Automotive 3.3nF ±10% 50VDC X7R 0402 Paper T/R; Manufacturer: Murata; Voltage Rating (DC): 50V; Max Operating Temperature: 125°C; Termination: SMD/SMT; Depth: 0.5mm; Min Operating Temperature: -55°C; Voltage Rating: 50V; Length: 1mm; Radiation Hardening: No; Tolerance: 10%; Case Code (Imperial): 0402; Mount: Surface Mount; Package Quantity: 50000; Width: 0.5mm; Height: 0.5mm; Case Code (Metric): 1005; Capacitance: 3.3nF; Packaging: Tape and Reel; Case/Package: 0402; Dielectric: X7R; Manufacturer Part Number: GCM155R71H332KA37J
footprint FP-GCM155-0_05-MFG
footprint FP-GCM155-0_05-IPC_B
footprint FP-GCM155-0_05-IPC_C
footprint FP-GCM155-0_05-IPC_A
pins: 1, 2

## CMP-06035-016531-1
designator C?, comment GCM155R71C224KE02D
Ceramic Capacitor for Automotive 220nF ±10% 16VDC X7R 0402 Paper T/R; Manufacturer: Murata; Voltage Rating (DC): 16V; Thickness: 0.022inch; Length: 0.039inch; Dielectric: X7R; Packaging: Tape and Reel; Min Operating Temperature: -55°C; Case Code (Imperial): 0402; Tolerance: 10%; Lead Free: Lead Free; Max Operating Temperature: 125°C; Case/Package: 0402; Mount: Surface Mount; Case Code (Metric): 1005; Weight: 0.000212oz; Height: 0.5mm; Voltage Rating: 16V; Ratings: AEC-Q200; Package Quantity: 10000; Capacitance: 220nF; Termination: SMD/SMT; Width: 0.5mm; Manufacturer Part Number: GCM155R71C224KE02D
footprint FP-GCM155-0_05-MFG
footprint FP-GCM155-0_05-IPC_C
footprint FP-GCM155-0_05-IPC_B
footprint FP-GCM155-0_05-IPC_A
pins: 1, 2

## CMP-06035-017415-1
designator C?, comment GRT188C81C106ME13D
Multi-Layer Ceramic Capacitor 10uF 16V X6S ±20% 0603 Paper T/R; Manufacturer: Murata; Capacitance: 10uF; Case Code (Imperial): 0603; Voltage Rating: 16V; Case/Package: 0603; Width: 0.031inch; Min Operating Temperature: -55°C; Tolerance: 20%; Case Code (Metric): 1608; Mount: Surface Mount; Packaging: Tape and Reel; Length: 0.063inch; Max Operating Temperature: 105°C; Thickness: 0.035inch; Ratings: AEC-Q200; Manufacturer Part Number: GRT188C81C106ME13D
footprint FP-GRT188-0_2-MFG
footprint FP-GRT188-0_2-IPC_C
footprint FP-GRT188-0_2-IPC_B
footprint FP-GRT188-0_2-IPC_A
pins: 1, 2

## CMP-06035-026512-1
designator C?, comment GCM21BC7YA225KE02L
Ceramic Capacitor for Automotive 2.2uF ±10% 35VDC X7S 0805 Embossed T/R; Manufacturer: Murata; Voltage Rating: 35V; Capacitance: 2.2uF; Case Code (Metric): 2012; Max Operating Temperature: 125°C; Min Operating Temperature: -55°C; Case Code (Imperial): 0805; Ratings: AEC-Q200; Packaging: Cut Tape; Mount: Surface Mount; Tolerance: 10%; Case/Package: 0805; Manufacturer Part Number: GCM21BC7YA225KE02L
footprint FP-GCM21B-0_15-MFG
footprint FP-GCM21B-0_15-IPC_B
footprint FP-GCM21B-0_15-IPC_C
footprint FP-GCM21B-0_15-IPC_A
pins: 1, 2

## CMP-06035-049372-1
designator C?, comment GCM21BC71E475KE36L
Ceramic Capacitor for Automotive 4.7uF ±10% 25VDC X7S 0805 Embossed T/R; Manufacturer: Murata; Voltage Rating: 25V; Mount: Surface Mount; Case/Package: 0805; Case Code (Imperial): 0805; Tolerance: 10%; Max Operating Temperature: 125°C; Capacitance: 4.7uF; Packaging: Cut Tape; Min Operating Temperature: -55°C; Ratings: AEC-Q200; Case Code (Metric): 2012; Manufacturer Part Number: GCM21BC71E475KE36L
footprint FP-GCM21B-0_2-e0_2_0_7-IPC_C
footprint FP-GCM21B-0_2-e0_2_0_7-MFG
footprint FP-GCM21B-0_2-e0_2_0_7-IPC_A
footprint FP-GCM21B-0_2-e0_2_0_7-IPC_B
pins: 1, 2

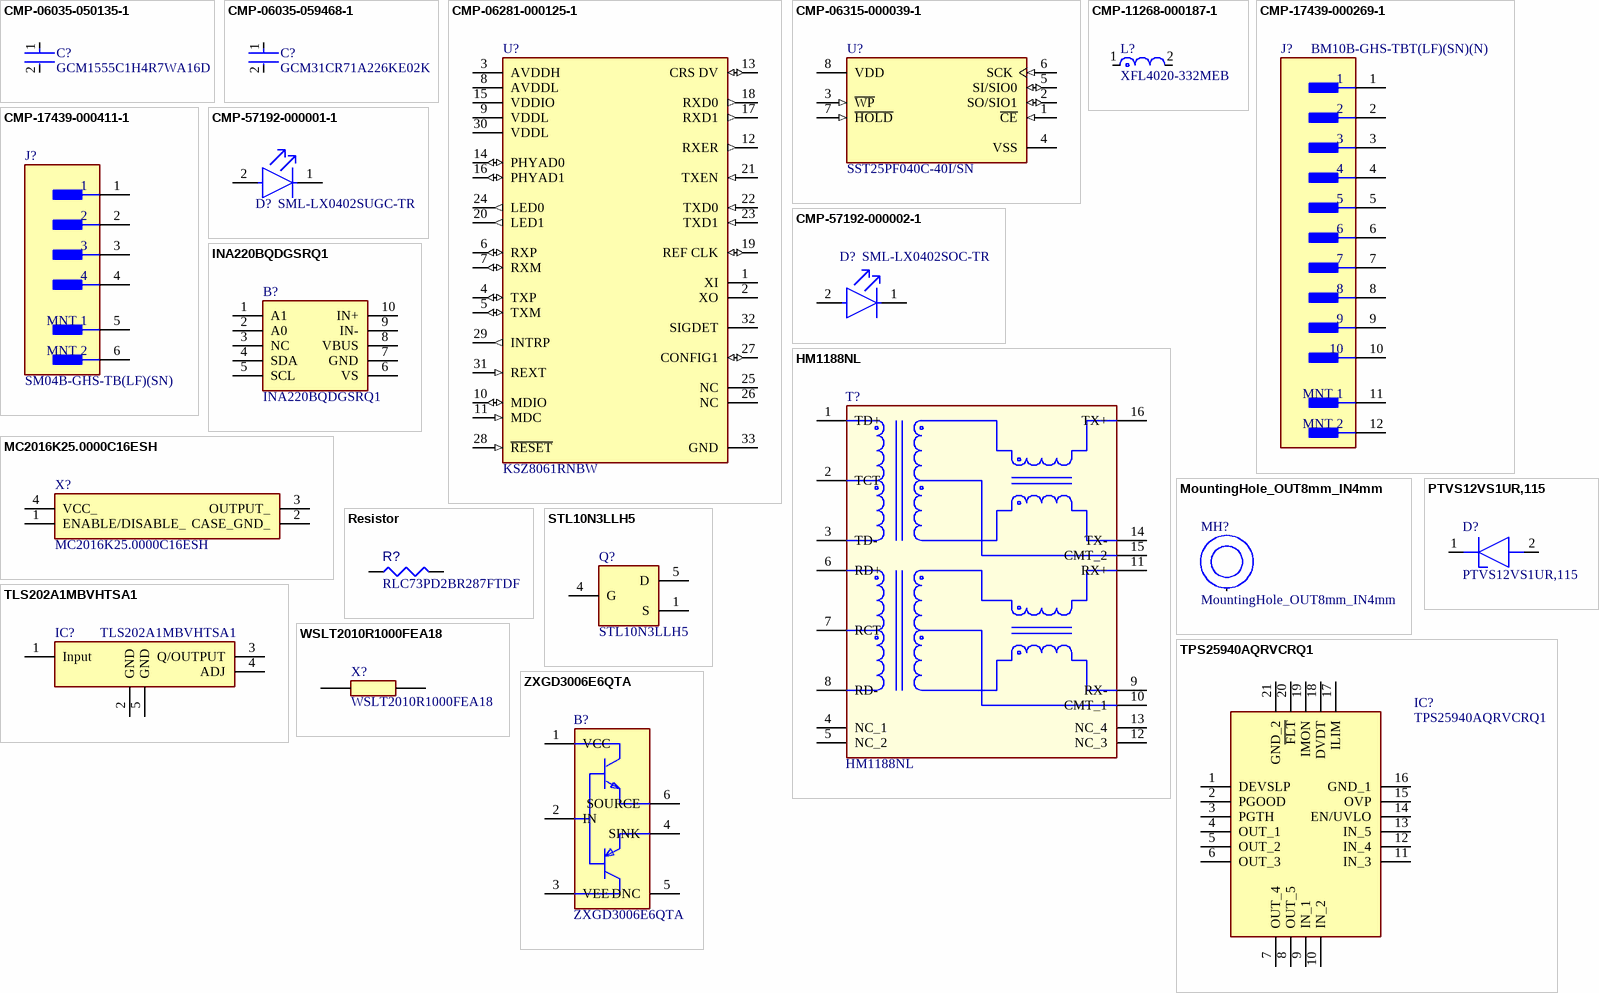
[diagram p1: symbols CMP-06035-050135-1 to ZXGD3006E6QTA]

## CMP-06035-050135-1
designator C?, comment GCM1555C1H4R7WA16D
Ceramic Capacitor for Automotive 4.7pF ±0.05pF 50VDC C0G 0402 Paper T/R; Manufacturer: Murata; Manufacturer Part Number: GCM1555C1H4R7WA16D
footprint FP-GCM155-0_05-MFG
footprint FP-GCM155-0_05-IPC_A
footprint FP-GCM155-0_05-IPC_B
footprint FP-GCM155-0_05-IPC_C
pins: 1, 2

## CMP-06035-059468-1
designator C?, comment GCM31CR71A226KE02K
Ceramic Capacitor for Automotive 22uF ±10% 10VDC X7R 1206 Embossed T/R; Manufacturer: Murata; Manufacturer Part Number: GCM31CR71A226KE02K
footprint FP-GCM31C-0_2-e0_3_0_8-IPC_A
footprint FP-GCM31C-0_2-e0_3_0_8-MFG
footprint FP-GCM31C-0_2-e0_3_0_8-IPC_C
footprint FP-GCM31C-0_2-e0_3_0_8-IPC_B
pins: 1, 2

## CMP-06281-000125-1
designator U?, comment KSZ8061RNBW
IC TRANSCEIVER FULL 1/1 32QFN; Manufacturer: Microchip; Data Rate: 100Mbps; Min Supply Voltage: 1.14V; Simplex/Duplex: Full Duplex; Max Supply Voltage: 3.465V; Packaging: Tray; Mount: Surface Mount; Case/Package: QFN; Max Operating Temperature: 105°C; Number of Pins: 32; Series: -; RoHS Compliant: No; REACH SVHC: No SVHC; Min Operating Temperature: -40°C; Manufacturer Part Number: KSZ8061RNBW
footprint FP-QFN55-32LD-PL-5-IPC_A
footprint FP-QFN55-32LD-PL-5-IPC_C
footprint FP-QFN55-32LD-PL-5-IPC_B
footprint FP-QFN55-32LD-PL-5-MFG
pins: 1 XI, 2 XO, 3 AVDDH (power), 4 TXP (io), 5 TXM (io), 6 RXP (io), 7 RXM (io), 8 AVDDL (power), 9 VDDL (power), 10 MDIO (io), 11 MDC (in), 12 RXER (out), 13 CRS DV (io), 14 PHYAD0 (io), 15 VDDIO (power), 16 PHYAD1 (io), 17 RXD1 (out), 18 RXD0 (out), 19 REF CLK (io), 20 LED1 (out), 21 TXEN (in), 22 TXD0 (in), 23 TXD1 (in), 24 LED0 (out), 25 NC, 26 NC, 27 CONFIG1 (io), 28 ~{RESET} (in), 29 INTRP (out), 30 VDDL (power), 31 REXT (in), 32 SIGDET, 33 GND (power)

## CMP-06315-000039-1
designator U?, comment SST25PF040C-40I/SN
IC FLASH 4MBIT SPI 40MHZ 8SOIC; Manufacturer: Microchip; Frequency: 40MHz; Min Operating Temperature: -40°C; Case/Package: SOIC; Max Operating Temperature: 85°C; Series: SST25; Packaging: Rail/Tube; Memory Type: FLASH; Interface: SPI; Manufacturer Part Number: SST25PF040C-40I/SN
footprint FP-C04-057-SN-IPC_B
footprint FP-C04-057-SN-IPC_A
footprint FP-C04-057-SN-IPC_C
footprint FP-C04-057-SN-MFG
pins: 1 ~{CE} (in), 2 SO/SIO1 (io), 3 ~{WP} (in), 4 VSS (power), 5 SI/SIO0 (io), 6 SCK (in), 7 ~{HOLD} (in), 8 VDD (power)

## CMP-11268-000187-1
designator L?, comment XFL4020-332MEB
Fixed Inductors 3.3Uh Shld 5.2A 38.3mOhms AECQ2; Manufacturer: Coilcraft; DC Resistance (DCR): 38.3mR; Shielding: Shielded; Inductance Tolerance: 20%; Saturation Current: 2.7A; Self Resonant Frequency: 33MHz; Test Frequency: 100kHz; Core Material: Composite; Series: XFL4020; Max Operating Temperature: 125°C; Mount: Surface Mount; Lead Free: Contains Lead; Height: 2.1mm; RMS Current (Irms): 5.2A; Termination: SMD/SMT; REACH SVHC: No SVHC; Tolerance: 20%; Package Quantity: 25; Length: 4.3mm; RoHS Compliant: Yes; Inductance: 3.3uH; Packaging: Tape and Reel; Case/Package: SMD/SMT; Width: 4.3mm; Max DC Current: 5.2A; Min Operating Temperature: -40°C; Manufacturer Part Number: XFL4020-332MEB
footprint FP-XFL4020-MFG
pins: 1, 2

## CMP-17439-000269-1
designator J?, comment BM10B-GHS-TBT(LF)(SN)(N)
CONN HEADER SMD 10POS 1.25MM; Manufacturer: JST; Mated Stacking Heights: 7.3mm; Number of Positions: 10; Voltage Rating: 50V; Packaging: Cut Tape; Contact Shape: Rectangular; Insulation Material: Nylon; Contact Type: Outer Shroud Contact; Contact Finish - Mating: TIN; Fastening Type: Ramp; Termination: Solder; Max Operating Temperature: 85°C; Min Operating Temperature: -25°C; Insulation Color: Natural; Number of Rows: 1; Flammability Rating: UL94 V-0; Contact Material: Bronze; Mount: Surface Mount; Series: GH; Connector Type: Header; Manufacturer Part Number: BM10B-GHS-TBT(LF)(SN)(N)
footprint FP-BM10B-GHS-TBT_LF_SN-MFG
pins: 1, 2, 3, 4, 5, 6, 7, 8, 9, 10, 11 MNT 1, 12 MNT 2

## CMP-17439-000411-1
designator J?, comment SM04B-GHS-TB(LF)(SN)
CONN HEADER SMD R/A 4POS 1.25MM; Manufacturer: JST; Voltage Rating: 50V; Number of Contacts: 4; Current Rating: 1A; Termination: Solder; Mount: Surface Mount; REACH SVHC: No SVHC; Packaging: Cut Tape; Contact Material: Bronze; Series: GH; Orientation: Right Angle; Lead Free: Lead Free; Housing Material: Nylon; Contact Plating: Tin; Housing Color: Natural; Number of Rows: 1; Pitch: 1.25mm; Number of Positions: 4; Manufacturer Part Number: SM04B-GHS-TB(LF)(SN)
footprint FP-SM04B-GHS-TB_LF_SN-MFG
pins: 1, 2, 3, 4, 5 MNT 1, 6 MNT 2

## CMP-57192-000001-1
designator D?, comment SML-LX0402SUGC-TR
LED GREEN CLEAR SMD; Manufacturer: Lumex; Forward Voltage: 2.2V; Test Current: 20mA; Luminous Intensity: 45mcd; Lens Style: Diffused; Number of LEDs: 1; Approvals: UL; Lens Color: Colorless; Dominant Wavelength: 574nm; Viewing Angle: 120°; Lead Free: Lead Free; Case/Package: 0402; Number of Pins: 2; Width: 0.5mm; Min Operating Temperature: -40°C; Case Code (Imperial): 0402; Packaging: Tape and Reel; Color: Green; Max Operating Temperature: 85°C; Case Code (Metric): 1005; Mount: Surface Mount; Length: 1mm; Wavelength: 574nm; Height: 0.5mm; Illumination Color: Green; Lens Transparency: Clear; Package Quantity: 1; Forward Current: 20mA; Manufacturer Part Number: SML-LX0402SUGC-TR
footprint FP-SML-LX0402SUGC-TR-MFG
pins: 1 C, 2 A

## CMP-57192-000002-1
designator D?, comment SML-LX0402SOC-TR
LED ORANGE CLEAR SMD; Manufacturer: Lumex; Forward Voltage: 2V; Viewing Angle: 120°; Luminous Intensity: 120mcd; Wavelength: 610nm; Forward Current: 20mA; Number of LEDs: 1; Lens Color: Colorless; Max Operating Temperature: 85°C; Mount: Surface Mount; Lens Transparency: Clear; Lens Style: Clear; Case Code (Metric): 1005; Length: 1mm; Package Quantity: 1; Case Code (Imperial): 0402; Color: Orange; Illumination Color: Orange; Width: 0.5mm; Packaging: Tape and Reel; Test Current: 20mA; Min Operating Temperature: -40°C; Height: 0.5mm; Number of Pins: 2; Lead Free: Lead Free; Case/Package: 0402; Manufacturer Part Number: SML-LX0402SOC-TR
footprint FP-SML-LX0402SOC-TR-MFG
pins: 1 C, 2 A

## HM1188NL
designator T?
Transformer; Manufacturer_Name: Pulse Electronics; Datasheet Link: https://componentsearchengine.com/Datasheets/1/HM1188NL.pdf; Height: 5.969mm; Manufacturer_Part_Number: HM1188NL; Mouser Part Number: 673-HM1188NL; Mouser Price/Stock: https://www.mouser.co.uk/ProductDetail/Pulse-Electronics/HM1188NL?qs=IbBl3rwNelMAAot5OPq3lA%3D%3D; Arrow Part Number: HM1188NL; Arrow Price/Stock: https://www.arrow.com/en/products/hm1188nl/pulse-electronics-corporation?region=nac
footprint HM1188NL
pins: 1 TD+, 2 TCT, 3 TD-, 4 NC_1, 5 NC_2, 6 RD+, 7 RCT, 8 RD-, 9 RX-, 10 CMT_1, 11 RX+, 12 NC_3, 13 NC_4, 14 TX-, 15 CMT_2, 16 TX+

## INA220BQDGSRQ1
designator B?
Automotive, 26-V, Bi-Directional, Zero-Drift, Low-/High-Side, I2C Out Current/Power Monitor; Manufacturer_Name: Texas Instruments; Geometry.Height: 1.1mm; Mouser Part Number: 595-INA220BQDGSRQ1; Mouser Price/Stock: https://www.mouser.co.uk/ProductDetail/Texas-Instruments/INA220BQDGSRQ1?qs=4whTb%2F0XQMgSmfUlXJGxRQ%3D%3D; Manufacturer_Part_Number: INA220BQDGSRQ1; Datasheet Link: http://www.ti.com/lit/gpn/ina220-q1
footprint SOP50P490X110-10N
pins: 1 A1, 2 A0, 3 NC, 4 SDA, 5 SCL, 6 VS, 7 GND, 8 VBUS, 9 IN-, 10 IN+

## MC2016K25.0000C16ESH
designator X?
XTAL OSC XO 25.0000MHZ CMOS SMD; Manufacturer_Name: KYOCERA; Geometry.Height: 0.8mm; Mouser Part Number: 581-MC2016K25.C16ESH; Mouser Price/Stock: https://www.mouser.co.uk/ProductDetail/KYOCERA-AVX/MC2016K25.0000C16ESH?qs=yTuLhIm%2Fv1ApwYpapkX4jg%3D%3D; Manufacturer_Part_Number: MC2016K25.0000C16ESH; Datasheet Link: https://media.digikey.com/pdf/Data%20Sheets/AVX%20PDFs/MC2016K25.0000C16ESH_Spec~.pdf
footprint MC2016K250000C16ESH
pins: 1 ENABLE/DISABLE_, 2 CASE_GND_, 3 OUTPUT_, 4 VCC_

## MountingHole_OUT8mm_IN4mm
designator MH?
footprint MountingHole_OUT8mm_IN4mm
pins: 1

## PTVS12VS1UR,115
designator D?
Diode ESD (Uni-directional); Manufacturer_Name: Nexperia; Datasheet Link: https://assets.nexperia.com/documents/data-sheet/PTVSXS1UR_SER.pdf; Manufacturer_Part_Number: PTVS12VS1UR,115; Mouser Part Number: 771-PTVS12VS1UR115; Mouser Price/Stock: https://www.mouser.co.uk/ProductDetail/Nexperia/PTVS12VS1UR115?qs=LMSg3oBIm%2FiWSHvsyxWiLg%3D%3D; Arrow Part Number: PTVS12VS1UR,115; Arrow Price/Stock: https://www.arrow.com/en/products/ptvs12vs1ur115/nexperia?region=nac
footprint SOD123W
pins: 1 K, 2 A

## Resistor
designator R?, comment value RLC73PD2BR287FTDF  (hidden comment: RES-2)
Resistor
footprint R0402 (Chip Resistor, 2-Leads, Body 1.05x0.55mm, IPC Medium Density)
footprint R0603 (Chip Resistor, 2-Leads, Body 1.65x0.95mm, IPC Medium Density)
footprint R0805 (Chip Resistor, 2-Leads, Body 2.2x1.35mm, IPC Medium Density)
footprint R1206 (Chip Resistor, 2-Leads, Body 3.25x1.65mm, IPC Medium Density)
pins: 1, 2
1 alternate drawing of the same symbol

## STL10N3LLH5
designator Q?
STMICROELECTRONICS - STL10N3LLH5 - MOSFET, N-CH, 30V, 9A, POWERFLAT; Geometry.Height: 1mm; Mouser Part Number: 511-STL10N3LLH5; Mouser Price/Stock: https://www.mouser.co.uk/ProductDetail/STMicroelectronics/STL10N3LLH5?qs=0gj%2FgiofzsOGxczN3DPYlA%3D%3D; Manufacturer_Name: STMicroelectronics; Manufacturer_Part_Number: STL10N3LLH5; Datasheet Link: https://www.st.com/resource/en/datasheet/stl10n3llh5.pdf
footprint STL10N3LLH5; pin to pad 1>1+2+3 5>5+6+7+8+9+10
pins: 1 S, 4 G, 5 D

## TLS202A1MBVHTSA1
designator IC?
Integrated Circuit; Manufacturer_Name: Infineon; Datasheet Link: https://www.infineon.com/dgdl/Infineon-TLS202A1MBV-DS-v01_00-EN.pdf?fileId=5546d46258fc0bc1015969d30cbf4211; Manufacturer_Part_Number: TLS202A1MBVHTSA1; Mouser Part Number: 726-TLS202A1MBVHTSA1; Mouser Price/Stock: https://www.mouser.co.uk/ProductDetail/Infineon-Technologies/TLS202A1MBVHTSA1?qs=0DP5yvOrqYl%252BugsjRWokhA%3D%3D
footprint TLS202A1MBVHTSA1
pins: 1 Input, 2 GND, 3 Q/OUTPUT, 4 ADJ, 5 GND

## TPS25940AQRVCRQ1
designator IC?
Integrated Circuit; Manufacturer_Name: Texas Instruments; Datasheet Link: http://www.ti.com/lit/gpn/tps25940-q1; Height: 0.8mm; Manufacturer_Part_Number: TPS25940AQRVCRQ1; Mouser Part Number: 595-TPS25940AQRVCRQ1; Mouser Price/Stock: https://www.mouser.co.uk/ProductDetail/Texas-Instruments/TPS25940AQRVCRQ1?qs=osPbIpHqQ9Uam0Tf4VM8lQ%3D%3D; Arrow Part Number: TPS25940AQRVCRQ1; Arrow Price/Stock: https://www.arrow.com/en/products/tps25940aqrvcrq1/texas-instruments
footprint QFN50P300X400X80-21N
pins: 1 DEVSLP, 2 PGOOD, 3 PGTH, 4 OUT_1, 5 OUT_2, 6 OUT_3, 7 OUT_4, 8 OUT_5, 9 IN_1, 10 IN_2, 11 IN_3, 12 IN_4, 13 IN_5, 14 EN/UVLO, 15 OVP, 16 GND_1, 17 ILIM, 18 DVDT, 19 IMON, 20 ~{FLT}, 21 GND_2

## WSLT2010R1000FEA18
designator X?
Current Sense Resistors - SMD 1watt .1ohms 1%; Manufacturer_Name: Vishay; Geometry.Height: 0.889mm; Mouser Part Number: 71-WSLT2010R1000FEA1; Mouser Price/Stock: https://www.mouser.co.uk/ProductDetail/Vishay-Dale/WSLT2010R1000FEA18?qs=g9ZB6v9yyDrIJygNjdpZKg%3D%3D; Manufacturer_Part_Number: WSLT2010R1000FEA18; Datasheet Link: https://componentsearchengine.com/Datasheets/2/WSLT2010R1000FEA18.pdf
footprint RESC5125X89N
pins: 1, 2

## ZXGD3006E6QTA
designator B?
Gate Drivers 10A Gate Driver 40V 9.5ns; Manufacturer_Name: Diodes Incorporated; Geometry.Height: 1.4mm; Mouser Part Number: 621-ZXGD3006E6QTA; Mouser Price/Stock: https://www.mouser.co.uk/ProductDetail/Diodes-Incorporated/ZXGD3006E6QTA?qs=%252Bk6%2F5FB6qrkSqHfjmaZYTQ%3D%3D; Manufacturer_Part_Number: ZXGD3006E6QTA; Datasheet Link: https://www.diodes.com/assets/Datasheets/ZXGD3006E6.pdf
footprint SOT95P285X140-6N
pins: 1 VCC, 2 IN, 3 VEE, 4 SINK, 5 DNC, 6 SOURCE